# Altium schematic symbol library ADC-20-132&plus_.SchLib: 2 symbols
Pins are listed as number, name and electrical type; pins without a type are passive.

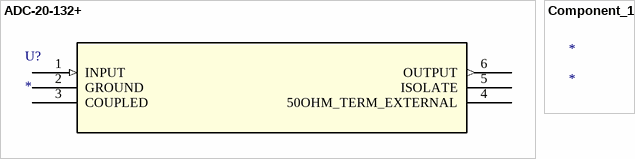
[diagram p0: symbols ADC-20-132+ to Component_1]

## ADC-20-132+
designator U?
No Description Available; Mfr_Name: Mini Circuits; RefDes: RefDes; Type: Type
footprint CD542_MNC
pins: 1 INPUT (in), 2 GROUND (power), 3 COUPLED, 4 50OHM_TERM_EXTERNAL, 5 ISOLATE, 6 OUTPUT (out)

## Component_1
designator *